# EAGLE library part ARDEUNIS_BT_787 (library tinyLight)
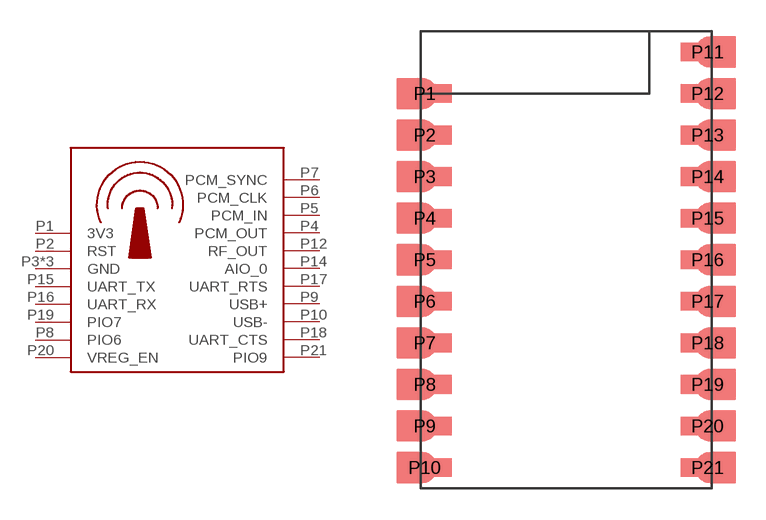
[diagram p0: symbol with the pads of BT_MODULE; footprint BT_MODULE]

Designator prefix BT

## ARDEUNIS_BT_787  [BT_MODULE]
P1  3V3  pwr
P2  RST  in
P3  GND  pwr
P4  PCM_OUT  nc
P5  PCM_IN  nc
P6  PCM_CLK  nc
P7  PCM_SYNC  nc
P8  PIO6
P9  USB+  nc
P10  USB-  nc
P11  GND  pwr
P12  RF_OUT  out
P13  GND  pwr
P14  AIO_0
P15  UART_TX
P16  UART_RX
P17  UART_RTS
P18  UART_CTS
P19  PIO7
P20  VREG_EN  in
P21  PIO9

## Footprint BT_MODULE (pad centres in mm)
smd 2.6 x 0.9: P1 0.2,-2; P2 0.2,-4; P3 0.2,-6; P4 0.2,-8; P5 0.2,-10; P6 0.2,-12; P7 0.2,-14; P8 0.2,-16; P9 0.2,-18; P10 0.2,-20; P11 13.8,0; P12 13.8,-2; P13 13.8,-4; P14 13.8,-6; P15 13.8,-8; P16 13.8,-10; P17 13.8,-12; P18 13.8,-14; P19 13.8,-16; P20 13.8,-18; P21 13.8,-20